# Altium integrated library NSC Discrete JFET.IntLib: 140 symbols (part 1 of 2)
Pins are listed as number, name and electrical type; pins without a type are passive.

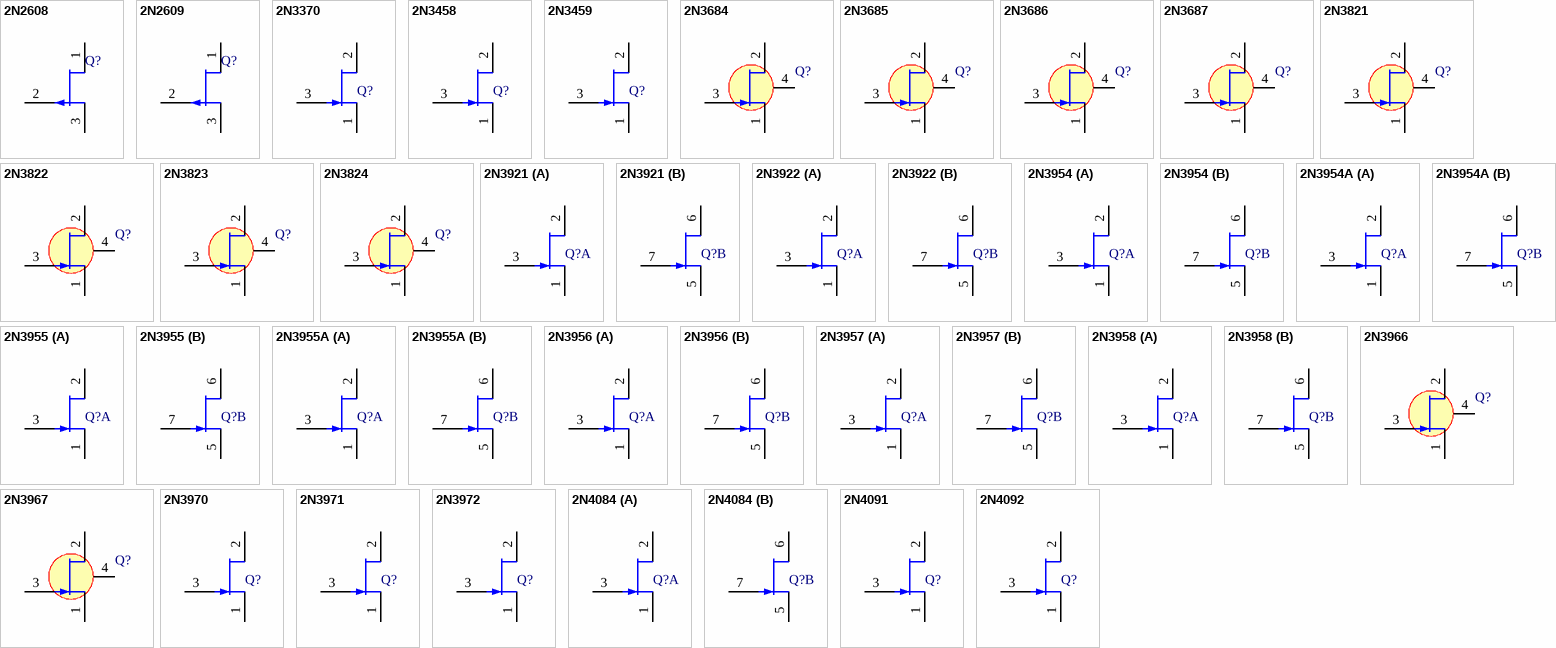
[diagram p0: symbols 2N2608 to 2N4092]

## 2N2608
designator Q?
P-Channel JFET (Amplifier); PackageDocument: 1989; Published: 8-Jun-2000; LatestRevisionDate: 17-Jul-2002; LatestRevisionNote: Re-released for DXP Platform.; DatasheetDocument: 1989; PackageReference: TO-18; Publisher: Altium Limited; ComponentLink1Description: Manufacturer Link; ComponentLink1URL: http://www.national.com/
footprint TO-18 (Can; 3 Leads; Pin Circle Dia. 2.54 mm; Lead Dia. 0.48 mm (max))
simulation model 2N2608 (PJFET)
pins: 1 S, 2 G, 3 D

## 2N2609
designator Q?
P-Channel JFET (Amplifier); PackageDocument: 1989; Published: 8-Jun-2000; LatestRevisionDate: 17-Jul-2002; LatestRevisionNote: Re-released for DXP Platform.; DatasheetDocument: 1989; PackageReference: TO-18; Publisher: Altium Limited; ComponentLink1Description: Manufacturer Link; ComponentLink1URL: http://www.national.com/
footprint TO-18 (Can; 3 Leads; Pin Circle Dia. 2.54 mm; Lead Dia. 0.48 mm (max))
simulation model 2N2609 (PJFET)
pins: 1 S, 2 G, 3 D

## 2N3370
designator Q?
N-Channel JFET (General Purpose Amplifier); PackageDocument: 1989; Published: 8-Jun-2000; LatestRevisionDate: 17-Jul-2002; LatestRevisionNote: Re-released for DXP Platform.; DatasheetDocument: 1989; PackageReference: TO-18; Publisher: Altium Limited; ComponentLink1Description: Manufacturer Link; ComponentLink1URL: http://www.national.com/
footprint TO-18 (Can; 3 Leads; Pin Circle Dia. 2.54 mm; Lead Dia. 0.48 mm (max))
simulation model 2N3370 (NJFET)
pins: 1 S, 2 D, 3 G

## 2N3458
designator Q?
N-Channel JFET (General Purpose Amplifier); PackageDocument: 1989; Published: 8-Jun-2000; LatestRevisionDate: 17-Jul-2002; LatestRevisionNote: Re-released for DXP Platform.; DatasheetDocument: 1989; PackageReference: TO-18; Publisher: Altium Limited; ComponentLink1Description: Manufacturer Link; ComponentLink1URL: http://www.national.com/
footprint TO-18 (Can; 3 Leads; Pin Circle Dia. 2.54 mm; Lead Dia. 0.48 mm (max))
simulation model 2N3458 (NJFET)
pins: 1 S, 2 D, 3 G

## 2N3459
designator Q?
N-Channel JFET (General Purpose Amplifier); PackageDocument: 1989; Published: 8-Jun-2000; LatestRevisionDate: 17-Jul-2002; LatestRevisionNote: Re-released for DXP Platform.; DatasheetDocument: 1989; PackageReference: TO-18; Publisher: Altium Limited; ComponentLink1Description: Manufacturer Link; ComponentLink1URL: http://www.national.com/
footprint TO-18 (Can; 3 Leads; Pin Circle Dia. 2.54 mm; Lead Dia. 0.48 mm (max))
simulation model 2N3459 (NJFET)
pins: 1 S, 2 D, 3 G

## 2N3684
designator Q?
N-Channel JFET (General Purpose Amplifier); PackageDocument: 1989; Note: Pin 4 is connected to case; Published: 8-Jun-2000; LatestRevisionDate: 17-Jul-2002; LatestRevisionNote: Re-released for DXP Platform.; DatasheetDocument: 1989; PackageReference: TO-72; Publisher: Altium Limited; ComponentLink1Description: Manufacturer Link; ComponentLink1URL: http://www.national.com/
footprint TO-72 (Can; 4 Leads; Pin Circle Dia. 2.54 mm; Lead Dia. 0.48 mm (max))
simulation model 2N3684 (NJFET)
pins: 1 S, 2 D, 3 G, 4 C

## 2N3685
designator Q?
N-Channel JFET (General Purpose Amplifier); PackageDocument: 1989; Note: Pin 4 is connected to case; Published: 8-Jun-2000; LatestRevisionDate: 17-Jul-2002; LatestRevisionNote: Re-released for DXP Platform.; DatasheetDocument: 1989; PackageReference: TO-72; Publisher: Altium Limited; ComponentLink1Description: Manufacturer Link; ComponentLink1URL: http://www.national.com/
footprint TO-72 (Can; 4 Leads; Pin Circle Dia. 2.54 mm; Lead Dia. 0.48 mm (max))
simulation model 2N3685 (NJFET)
pins: 1 S, 2 D, 3 G, 4 C

## 2N3686
designator Q?
N-Channel JFET (General Purpose Amplifier); PackageDocument: 1989; Note: Pin 4 is connected to case; Published: 8-Jun-2000; LatestRevisionDate: 17-Jul-2002; LatestRevisionNote: Re-released for DXP Platform.; DatasheetDocument: 1989; PackageReference: TO-72; Publisher: Altium Limited; ComponentLink1Description: Manufacturer Link; ComponentLink1URL: http://www.national.com/
footprint TO-72 (Can; 4 Leads; Pin Circle Dia. 2.54 mm; Lead Dia. 0.48 mm (max))
simulation model 2N3686 (NJFET)
pins: 1 S, 2 D, 3 G, 4 C

## 2N3687
designator Q?
N-Channel JFET (General Purpose Amplifier); PackageDocument: 1989; Note: Pin 4 is connected to case; Published: 8-Jun-2000; LatestRevisionDate: 17-Jul-2002; LatestRevisionNote: Re-released for DXP Platform.; DatasheetDocument: 1989; PackageReference: TO-72; Publisher: Altium Limited; ComponentLink1Description: Manufacturer Link; ComponentLink1URL: http://www.national.com/
footprint TO-72 (Can; 4 Leads; Pin Circle Dia. 2.54 mm; Lead Dia. 0.48 mm (max))
simulation model 2N3687 (NJFET)
pins: 1 S, 2 D, 3 G, 4 C

## 2N3821
designator Q?
N-Channel JFET (General Purpose Amplifier); PackageDocument: 1989; Note: Pin 4 is connected to case; Published: 8-Jun-2000; LatestRevisionDate: 17-Jul-2002; LatestRevisionNote: Re-released for DXP Platform.; DatasheetDocument: 1989; PackageReference: TO-72; Publisher: Altium Limited; ComponentLink1Description: Manufacturer Link; ComponentLink1URL: http://www.national.com/
footprint TO-72 (Can; 4 Leads; Pin Circle Dia. 2.54 mm; Lead Dia. 0.48 mm (max))
simulation model 2N3821 (NJFET)
pins: 1 S, 2 D, 3 G, 4 C

## 2N3822
designator Q?
N-Channel JFET (General Purpose Amplifier); PackageDocument: 1989; Note: Pin 4 is connected to case; Published: 8-Jun-2000; LatestRevisionDate: 17-Jul-2002; LatestRevisionNote: Re-released for DXP Platform.; DatasheetDocument: 1989; PackageReference: TO-72; Publisher: Altium Limited; ComponentLink1Description: Manufacturer Link; ComponentLink1URL: http://www.national.com/
footprint TO-72 (Can; 4 Leads; Pin Circle Dia. 2.54 mm; Lead Dia. 0.48 mm (max))
simulation model 2N3822 (NJFET)
pins: 1 S, 2 D, 3 G, 4 C

## 2N3823
designator Q?
N-Channel JFET (RF, VHF, UHF, Amplifier); PackageDocument: 1989; Note: Pin 4 is connected to case; Published: 8-Jun-2000; LatestRevisionDate: 17-Jul-2002; LatestRevisionNote: Re-released for DXP Platform.; DatasheetDocument: 1989; PackageReference: TO-72; Publisher: Altium Limited; ComponentLink1Description: Manufacturer Link; ComponentLink1URL: http://www.national.com/
footprint TO-72 (Can; 4 Leads; Pin Circle Dia. 2.54 mm; Lead Dia. 0.48 mm (max))
simulation model 2N3823 (NJFET)
pins: 1 S, 2 D, 3 G, 4 C

## 2N3824
designator Q?
N-Channel JFET (Switch/Chopper); PackageDocument: 1989; Note: Pin 4 is connected to case; Published: 8-Jun-2000; LatestRevisionDate: 17-Jul-2002; LatestRevisionNote: Re-released for DXP Platform.; DatasheetDocument: 1989; PackageReference: TO-72; Publisher: Altium Limited; ComponentLink1Description: Manufacturer Link; ComponentLink1URL: http://www.national.com/
footprint TO-72 (Can; 4 Leads; Pin Circle Dia. 2.54 mm; Lead Dia. 0.48 mm (max))
simulation model 2N3824 (NJFET)
pins: 1 S, 2 D, 3 G, 4 C

## 2N3921
designator Q?
N-Channel Dual JFET (General Purpose); PackageDocument: 1989; Note: Pin 4 is missing and is not drawn; Published: 8-Jun-2000; LatestRevisionDate: 17-Jul-2002; LatestRevisionNote: Re-released for DXP Platform.; DatasheetDocument: 1989; PackageReference: TO-71; Publisher: Altium Limited; ComponentLink1Description: Manufacturer Link; ComponentLink1URL: http://www.national.com/
footprint TO-71 (Can; 7 Leads (1 Absent); Pin Circle Dia. 2.54 mm; Lead Dia. 0.48 mm (max))
simulation model 2N3921 (NJFET)
part A pins: 1 S, 2 D, 3 G
part B pins: 5 S, 6 D, 7 G

## 2N3922
designator Q?
N-Channel Dual JFET (General Purpose); PackageDocument: 1989; Note: Pin 4 is missing and is not drawn; Published: 8-Jun-2000; LatestRevisionDate: 17-Jul-2002; LatestRevisionNote: Re-released for DXP Platform.; DatasheetDocument: 1989; PackageReference: TO-71; Publisher: Altium Limited; ComponentLink1Description: Manufacturer Link; ComponentLink1URL: http://www.national.com/
footprint TO-71 (Can; 7 Leads (1 Absent); Pin Circle Dia. 2.54 mm; Lead Dia. 0.48 mm (max))
simulation model 2N3922 (NJFET)
part A pins: 1 S, 2 D, 3 G
part B pins: 5 S, 6 D, 7 G

## 2N3954
designator Q?
N-Channel Dual JFET (General Purpose); PackageDocument: 1989; Note: Pin 4 is missing and is not drawn; Published: 8-Jun-2000; LatestRevisionDate: 17-Jul-2002; LatestRevisionNote: Re-released for DXP Platform.; DatasheetDocument: 1989; PackageReference: TO-71; Publisher: Altium Limited; ComponentLink1Description: Manufacturer Link; ComponentLink1URL: http://www.national.com/
footprint TO-71 (Can; 7 Leads (1 Absent); Pin Circle Dia. 2.54 mm; Lead Dia. 0.48 mm (max))
simulation model 2N3954 (NJFET)
part A pins: 1 S, 2 D, 3 G
part B pins: 5 S, 6 D, 7 G

## 2N3954A
designator Q?
N-Channel Dual JFET (General Purpose); PackageDocument: 1989; Note: Pin 4 is missing and is not drawn; Published: 8-Jun-2000; LatestRevisionDate: 17-Jul-2002; LatestRevisionNote: Re-released for DXP Platform.; DatasheetDocument: 1989; PackageReference: TO-71; Publisher: Altium Limited; ComponentLink1Description: Manufacturer Link; ComponentLink1URL: http://www.national.com/
footprint TO-71 (Can; 7 Leads (1 Absent); Pin Circle Dia. 2.54 mm; Lead Dia. 0.48 mm (max))
simulation model 2N3954A (NJFET)
part A pins: 1 S, 2 D, 3 G
part B pins: 5 S, 6 D, 7 G

## 2N3955
designator Q?
N-Channel Dual JFET (General Purpose); PackageDocument: 1989; Note: Pin 4 is missing and is not drawn; Published: 8-Jun-2000; LatestRevisionDate: 17-Jul-2002; LatestRevisionNote: Re-released for DXP Platform.; DatasheetDocument: 1989; PackageReference: TO-71; Publisher: Altium Limited; ComponentLink1Description: Manufacturer Link; ComponentLink1URL: http://www.national.com/
footprint TO-71 (Can; 7 Leads (1 Absent); Pin Circle Dia. 2.54 mm; Lead Dia. 0.48 mm (max))
simulation model 2N3955 (NJFET)
part A pins: 1 S, 2 D, 3 G
part B pins: 5 S, 6 D, 7 G

## 2N3955A
designator Q?
N-Channel Dual JFET (General Purpose); PackageDocument: 1989; Note: Pin 4 is missing and is not drawn; Published: 8-Jun-2000; LatestRevisionDate: 17-Jul-2002; LatestRevisionNote: Re-released for DXP Platform.; DatasheetDocument: 1989; PackageReference: TO-71; Publisher: Altium Limited; ComponentLink1Description: Manufacturer Link; ComponentLink1URL: http://www.national.com/
footprint TO-71 (Can; 7 Leads (1 Absent); Pin Circle Dia. 2.54 mm; Lead Dia. 0.48 mm (max))
simulation model 2N3955A (NJFET)
part A pins: 1 S, 2 D, 3 G
part B pins: 5 S, 6 D, 7 G

## 2N3956
designator Q?
N-Channel Dual JFET (General Purpose); PackageDocument: 1989; Note: Pin 4 is missing and is not drawn; Published: 8-Jun-2000; LatestRevisionDate: 17-Jul-2002; LatestRevisionNote: Re-released for DXP Platform.; DatasheetDocument: 1989; PackageReference: TO-71; Publisher: Altium Limited; ComponentLink1Description: Manufacturer Link; ComponentLink1URL: http://www.national.com/
footprint TO-71 (Can; 7 Leads (1 Absent); Pin Circle Dia. 2.54 mm; Lead Dia. 0.48 mm (max))
simulation model 2N3956 (NJFET)
part A pins: 1 S, 2 D, 3 G
part B pins: 5 S, 6 D, 7 G

## 2N3957
designator Q?
N-Channel Dual JFET (General Purpose); PackageDocument: 1989; Note: Pin 4 is missing and is not drawn; Published: 8-Jun-2000; LatestRevisionDate: 17-Jul-2002; LatestRevisionNote: Re-released for DXP Platform.; DatasheetDocument: 1989; PackageReference: TO-71; Publisher: Altium Limited; ComponentLink1Description: Manufacturer Link; ComponentLink1URL: http://www.national.com/
footprint TO-71 (Can; 7 Leads (1 Absent); Pin Circle Dia. 2.54 mm; Lead Dia. 0.48 mm (max))
simulation model 2N3957 (NJFET)
part A pins: 1 S, 2 D, 3 G
part B pins: 5 S, 6 D, 7 G

## 2N3958
designator Q?
N-Channel Dual JFET (General Purpose); PackageDocument: 1989; Note: Pin 4 is missing and is not drawn; Published: 8-Jun-2000; LatestRevisionDate: 17-Jul-2002; LatestRevisionNote: Re-released for DXP Platform.; DatasheetDocument: 1989; PackageReference: TO-71; Publisher: Altium Limited; ComponentLink1Description: Manufacturer Link; ComponentLink1URL: http://www.national.com/
footprint TO-71 (Can; 7 Leads (1 Absent); Pin Circle Dia. 2.54 mm; Lead Dia. 0.48 mm (max))
simulation model 2N3958 (NJFET)
part A pins: 1 S, 2 D, 3 G
part B pins: 5 S, 6 D, 7 G

## 2N3966
designator Q?
N-Channel JFET (Switch/Chopper); PackageDocument: 1989; Note: Pin 4 is connected to case; Published: 8-Jun-2000; LatestRevisionDate: 17-Jul-2002; LatestRevisionNote: Re-released for DXP Platform.; DatasheetDocument: 1989; PackageReference: TO-72; Publisher: Altium Limited; ComponentLink1Description: Manufacturer Link; ComponentLink1URL: http://www.national.com/
footprint TO-72 (Can; 4 Leads; Pin Circle Dia. 2.54 mm; Lead Dia. 0.48 mm (max))
simulation model 2N3966 (NJFET)
pins: 1 S, 2 D, 3 G, 4 C

## 2N3967
designator Q?
N-Channel JFET (General Purpose Amplifier); PackageDocument: 1989; Note: Pin 4 is connected to case; Published: 8-Jun-2000; LatestRevisionDate: 17-Jul-2002; LatestRevisionNote: Re-released for DXP Platform.; DatasheetDocument: 1989; PackageReference: TO-72; Publisher: Altium Limited; ComponentLink1Description: Manufacturer Link; ComponentLink1URL: http://www.national.com/
footprint TO-72 (Can; 4 Leads; Pin Circle Dia. 2.54 mm; Lead Dia. 0.48 mm (max))
simulation model 2N3967 (NJFET)
pins: 1 S, 2 D, 3 G, 4 C

## 2N3970
designator Q?
N-Channel JFET (Switch/Chopper); PackageDocument: 1989; Published: 8-Jun-2000; LatestRevisionDate: 17-Jul-2002; LatestRevisionNote: Re-released for DXP Platform.; DatasheetDocument: 1989; PackageReference: TO-18; Publisher: Altium Limited; ComponentLink1Description: Manufacturer Link; ComponentLink1URL: http://www.national.com/
footprint TO-18 (Can; 3 Leads; Pin Circle Dia. 2.54 mm; Lead Dia. 0.48 mm (max))
simulation model 2N3970 (NJFET)
pins: 1 S, 2 D, 3 G

## 2N3971
designator Q?
N-Channel JFET (Switch/Chopper); PackageDocument: 1989; Published: 8-Jun-2000; LatestRevisionDate: 17-Jul-2002; LatestRevisionNote: Re-released for DXP Platform.; DatasheetDocument: 1989; PackageReference: TO-18; Publisher: Altium Limited; ComponentLink1Description: Manufacturer Link; ComponentLink1URL: http://www.national.com/
footprint TO-18 (Can; 3 Leads; Pin Circle Dia. 2.54 mm; Lead Dia. 0.48 mm (max))
simulation model 2N3971 (NJFET)
pins: 1 S, 2 D, 3 G

## 2N3972
designator Q?
N-Channel JFET (Switch/Chopper); PackageDocument: 1989; Published: 8-Jun-2000; LatestRevisionDate: 17-Jul-2002; LatestRevisionNote: Re-released for DXP Platform.; DatasheetDocument: 1989; PackageReference: TO-18; Publisher: Altium Limited; ComponentLink1Description: Manufacturer Link; ComponentLink1URL: http://www.national.com/
footprint TO-18 (Can; 3 Leads; Pin Circle Dia. 2.54 mm; Lead Dia. 0.48 mm (max))
simulation model 2N3972 (NJFET)
pins: 1 S, 2 D, 3 G

## 2N4084
designator Q?
N-Channel Dual JFET (General Purpose); PackageDocument: 1989; Note: Pin 4 is missing and is not drawn; Published: 8-Jun-2000; LatestRevisionDate: 17-Jul-2002; LatestRevisionNote: Re-released for DXP Platform.; DatasheetDocument: 1989; PackageReference: TO-71; Publisher: Altium Limited; ComponentLink1Description: Manufacturer Link; ComponentLink1URL: http://www.national.com/
footprint TO-71 (Can; 7 Leads (1 Absent); Pin Circle Dia. 2.54 mm; Lead Dia. 0.48 mm (max))
simulation model 2N4084 (NJFET)
part A pins: 1 S, 2 D, 3 G
part B pins: 5 S, 6 D, 7 G

## 2N4091
designator Q?
N-Channel JFET (Switch/Chopper); PackageDocument: 1989; Published: 8-Jun-2000; LatestRevisionDate: 17-Jul-2002; LatestRevisionNote: Re-released for DXP Platform.; DatasheetDocument: 1989; PackageReference: TO-18; Publisher: Altium Limited; ComponentLink1Description: Manufacturer Link; ComponentLink1URL: http://www.national.com/
footprint TO-18 (Can; 3 Leads; Pin Circle Dia. 2.54 mm; Lead Dia. 0.48 mm (max))
simulation model 2N4091 (NJFET)
pins: 1 S, 2 D, 3 G

## 2N4092
designator Q?
N-Channel JFET (Switch/Chopper); PackageDocument: 1989; Published: 8-Jun-2000; LatestRevisionDate: 17-Jul-2002; LatestRevisionNote: Re-released for DXP Platform.; DatasheetDocument: 1989; PackageReference: TO-18; Publisher: Altium Limited; ComponentLink1Description: Manufacturer Link; ComponentLink1URL: http://www.national.com/
footprint TO-18 (Can; 3 Leads; Pin Circle Dia. 2.54 mm; Lead Dia. 0.48 mm (max))
simulation model 2N4092 (NJFET)
pins: 1 S, 2 D, 3 G

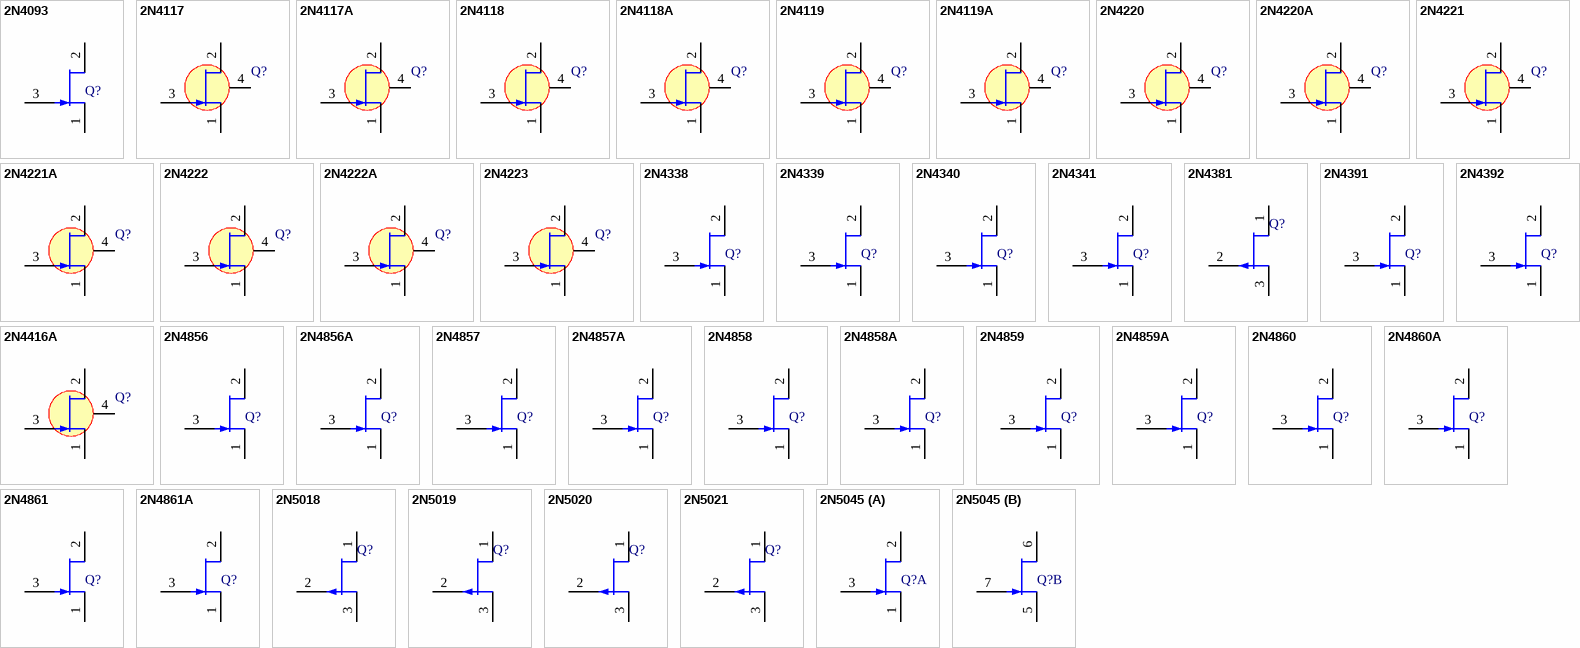
[diagram p1: symbols 2N4093 to 2N5045]

## 2N4093
designator Q?
N-Channel JFET (Switch/Chopper); PackageDocument: 1989; Published: 8-Jun-2000; LatestRevisionDate: 17-Jul-2002; LatestRevisionNote: Re-released for DXP Platform.; DatasheetDocument: 1989; PackageReference: TO-18; Publisher: Altium Limited; ComponentLink1Description: Manufacturer Link; ComponentLink1URL: http://www.national.com/
footprint TO-18 (Can; 3 Leads; Pin Circle Dia. 2.54 mm; Lead Dia. 0.48 mm (max))
simulation model 2N4093 (NJFET)
pins: 1 S, 2 D, 3 G

## 2N4117
designator Q?
N-Channel JFET (Ultra-Low Input Current Amplifier); PackageDocument: 1989; Note: Pin 4 is connected to case; Published: 8-Jun-2000; LatestRevisionDate: 17-Jul-2002; LatestRevisionNote: Re-released for DXP Platform.; DatasheetDocument: 1989; PackageReference: TO-72; Publisher: Altium Limited; ComponentLink1Description: Manufacturer Link; ComponentLink1URL: http://www.national.com/
footprint TO-72 (Can; 4 Leads; Pin Circle Dia. 2.54 mm; Lead Dia. 0.48 mm (max))
simulation model 2N4117 (NJFET)
pins: 1 S, 2 D, 3 G, 4 C

## 2N4117A
designator Q?
N-Channel JFET (Ultra-Low Input Current Amplifier); PackageDocument: 1989; Note: Pin 4 is connected to case; Published: 8-Jun-2000; LatestRevisionDate: 17-Jul-2002; LatestRevisionNote: Re-released for DXP Platform.; DatasheetDocument: 1989; PackageReference: TO-72; Publisher: Altium Limited; ComponentLink1Description: Manufacturer Link; ComponentLink1URL: http://www.national.com/
footprint TO-72 (Can; 4 Leads; Pin Circle Dia. 2.54 mm; Lead Dia. 0.48 mm (max))
simulation model 2N4117A (NJFET)
pins: 1 S, 2 D, 3 G, 4 C

## 2N4118
designator Q?
N-Channel JFET (Ultra-Low Input Current Amplifier); PackageDocument: 1989; Note: Pin 4 is connected to case; Published: 8-Jun-2000; LatestRevisionDate: 17-Jul-2002; LatestRevisionNote: Re-released for DXP Platform.; DatasheetDocument: 1989; PackageReference: TO-72; Publisher: Altium Limited; ComponentLink1Description: Manufacturer Link; ComponentLink1URL: http://www.national.com/
footprint TO-72 (Can; 4 Leads; Pin Circle Dia. 2.54 mm; Lead Dia. 0.48 mm (max))
simulation model 2N4118 (NJFET)
pins: 1 S, 2 D, 3 G, 4 C

## 2N4118A
designator Q?
N-Channel JFET (Ultra-Low Input Current Amplifier); PackageDocument: 1989; Note: Pin 4 is connected to case; Published: 8-Jun-2000; LatestRevisionDate: 17-Jul-2002; LatestRevisionNote: Re-released for DXP Platform.; DatasheetDocument: 1989; PackageReference: TO-72; Publisher: Altium Limited; ComponentLink1Description: Manufacturer Link; ComponentLink1URL: http://www.national.com/
footprint TO-72 (Can; 4 Leads; Pin Circle Dia. 2.54 mm; Lead Dia. 0.48 mm (max))
simulation model 2N4118A (NJFET)
pins: 1 S, 2 D, 3 G, 4 C

## 2N4119
designator Q?
N-Channel JFET (Ultra-Low Input Current Amplifier); PackageDocument: 1989; Note: Pin 4 is connected to case; Published: 8-Jun-2000; LatestRevisionDate: 17-Jul-2002; LatestRevisionNote: Re-released for DXP Platform.; DatasheetDocument: 1989; PackageReference: TO-72; Publisher: Altium Limited; ComponentLink1Description: Manufacturer Link; ComponentLink1URL: http://www.national.com/
footprint TO-72 (Can; 4 Leads; Pin Circle Dia. 2.54 mm; Lead Dia. 0.48 mm (max))
simulation model 2N4119 (NJFET)
pins: 1 S, 2 D, 3 G, 4 C

## 2N4119A
designator Q?
N-Channel JFET (Ultra-Low Input Current Amplifier); PackageDocument: 1989; Note: Pin 4 is connected to case; Published: 8-Jun-2000; LatestRevisionDate: 17-Jul-2002; LatestRevisionNote: Re-released for DXP Platform.; DatasheetDocument: 1989; PackageReference: TO-72; Publisher: Altium Limited; ComponentLink1Description: Manufacturer Link; ComponentLink1URL: http://www.national.com/
footprint TO-72 (Can; 4 Leads; Pin Circle Dia. 2.54 mm; Lead Dia. 0.48 mm (max))
simulation model 2N4119A (NJFET)
pins: 1 S, 2 D, 3 G, 4 C

## 2N4220
designator Q?
N-Channel JFET (General Purpose Amplifier); PackageDocument: 1989; Note: Pin 4 is connected to case; Published: 8-Jun-2000; LatestRevisionDate: 17-Jul-2002; LatestRevisionNote: Re-released for DXP Platform.; DatasheetDocument: 1989; PackageReference: TO-72; Publisher: Altium Limited; ComponentLink1Description: Manufacturer Link; ComponentLink1URL: http://www.national.com/
footprint TO-72 (Can; 4 Leads; Pin Circle Dia. 2.54 mm; Lead Dia. 0.48 mm (max))
simulation model 2N4220 (NJFET)
pins: 1 S, 2 D, 3 G, 4 C

## 2N4220A
designator Q?
N-Channel JFET (General Purpose Amplifier); PackageDocument: 1989; Note: Pin 4 is connected to case; Published: 8-Jun-2000; LatestRevisionDate: 17-Jul-2002; LatestRevisionNote: Re-released for DXP Platform.; DatasheetDocument: 1989; PackageReference: TO-72; Publisher: Altium Limited; ComponentLink1Description: Manufacturer Link; ComponentLink1URL: http://www.national.com/
footprint TO-72 (Can; 4 Leads; Pin Circle Dia. 2.54 mm; Lead Dia. 0.48 mm (max))
simulation model 2N4220A (NJFET)
pins: 1 S, 2 D, 3 G, 4 C

## 2N4221
designator Q?
N-Channel JFET (General Purpose Amplifier); PackageDocument: 1989; Note: Pin 4 is connected to case; Published: 8-Jun-2000; LatestRevisionDate: 17-Jul-2002; LatestRevisionNote: Re-released for DXP Platform.; DatasheetDocument: 1989; PackageReference: TO-72; Publisher: Altium Limited; ComponentLink1Description: Manufacturer Link; ComponentLink1URL: http://www.national.com/
footprint TO-72 (Can; 4 Leads; Pin Circle Dia. 2.54 mm; Lead Dia. 0.48 mm (max))
simulation model 2N4221 (NJFET)
pins: 1 S, 2 D, 3 G, 4 C

## 2N4221A
designator Q?
N-Channel JFET (General Purpose Amplifier); PackageDocument: 1989; Note: Pin 4 is connected to case; Published: 8-Jun-2000; LatestRevisionDate: 17-Jul-2002; LatestRevisionNote: Re-released for DXP Platform.; DatasheetDocument: 1989; PackageReference: TO-72; Publisher: Altium Limited; ComponentLink1Description: Manufacturer Link; ComponentLink1URL: http://www.national.com/
footprint TO-72 (Can; 4 Leads; Pin Circle Dia. 2.54 mm; Lead Dia. 0.48 mm (max))
simulation model 2N4221A (NJFET)
pins: 1 S, 2 D, 3 G, 4 C

## 2N4222
designator Q?
N-Channel JFET (General Purpose Amplifier); PackageDocument: 1989; Note: Pin 4 is connected to case; Published: 8-Jun-2000; LatestRevisionDate: 17-Jul-2002; LatestRevisionNote: Re-released for DXP Platform.; DatasheetDocument: 1989; PackageReference: TO-72; Publisher: Altium Limited; ComponentLink1Description: Manufacturer Link; ComponentLink1URL: http://www.national.com/
footprint TO-72 (Can; 4 Leads; Pin Circle Dia. 2.54 mm; Lead Dia. 0.48 mm (max))
simulation model 2N4222 (NJFET)
pins: 1 S, 2 D, 3 G, 4 C

## 2N4222A
designator Q?
N-Channel JFET (General Purpose Amplifier); PackageDocument: 1989; Note: Pin 4 is connected to case; Published: 8-Jun-2000; LatestRevisionDate: 17-Jul-2002; LatestRevisionNote: Re-released for DXP Platform.; DatasheetDocument: 1989; PackageReference: TO-72; Publisher: Altium Limited; ComponentLink1Description: Manufacturer Link; ComponentLink1URL: http://www.national.com/
footprint TO-72 (Can; 4 Leads; Pin Circle Dia. 2.54 mm; Lead Dia. 0.48 mm (max))
simulation model 2N4222A (NJFET)
pins: 1 S, 2 D, 3 G, 4 C

## 2N4223
designator Q?
N-Channel JFET (RF, VHF, UHF, Amplifier); PackageDocument: 1989; Note: Pin 4 is connected to case; Published: 8-Jun-2000; LatestRevisionDate: 17-Jul-2002; LatestRevisionNote: Re-released for DXP Platform.; DatasheetDocument: 1989; PackageReference: TO-72; Publisher: Altium Limited; ComponentLink1Description: Manufacturer Link; ComponentLink1URL: http://www.national.com/
footprint TO-72 (Can; 4 Leads; Pin Circle Dia. 2.54 mm; Lead Dia. 0.48 mm (max))
simulation model 2N4223 (NJFET)
pins: 1 S, 2 D, 3 G, 4 C

## 2N4338
designator Q?
N-Channel JFET (General Purpose Amplifier); PackageDocument: 1989; Published: 8-Jun-2000; LatestRevisionDate: 17-Jul-2002; LatestRevisionNote: Re-released for DXP Platform.; DatasheetDocument: 1989; PackageReference: TO-18; Publisher: Altium Limited; ComponentLink1Description: Manufacturer Link; ComponentLink1URL: http://www.national.com/
footprint TO-18 (Can; 3 Leads; Pin Circle Dia. 2.54 mm; Lead Dia. 0.48 mm (max))
simulation model 2N4338 (NJFET)
pins: 1 S, 2 D, 3 G

## 2N4339
designator Q?
N-Channel JFET (General Purpose Amplifier); PackageDocument: 1989; Published: 8-Jun-2000; LatestRevisionDate: 17-Jul-2002; LatestRevisionNote: Re-released for DXP Platform.; DatasheetDocument: 1989; PackageReference: TO-18; Publisher: Altium Limited; ComponentLink1Description: Manufacturer Link; ComponentLink1URL: http://www.national.com/
footprint TO-18 (Can; 3 Leads; Pin Circle Dia. 2.54 mm; Lead Dia. 0.48 mm (max))
simulation model 2N4339 (NJFET)
pins: 1 S, 2 D, 3 G

## 2N4340
designator Q?
N-Channel JFET (General Purpose Amplifier); PackageDocument: 1989; Published: 8-Jun-2000; LatestRevisionDate: 17-Jul-2002; LatestRevisionNote: Re-released for DXP Platform.; DatasheetDocument: 1989; PackageReference: TO-18; Publisher: Altium Limited; ComponentLink1Description: Manufacturer Link; ComponentLink1URL: http://www.national.com/
footprint TO-18 (Can; 3 Leads; Pin Circle Dia. 2.54 mm; Lead Dia. 0.48 mm (max))
simulation model 2N4340 (NJFET)
pins: 1 S, 2 D, 3 G

## 2N4341
designator Q?
N-Channel JFET (General Purpose Amplifier); PackageDocument: 1989; Published: 8-Jun-2000; LatestRevisionDate: 17-Jul-2002; LatestRevisionNote: Re-released for DXP Platform.; DatasheetDocument: 1989; PackageReference: TO-18; Publisher: Altium Limited; ComponentLink1Description: Manufacturer Link; ComponentLink1URL: http://www.national.com/
footprint TO-18 (Can; 3 Leads; Pin Circle Dia. 2.54 mm; Lead Dia. 0.48 mm (max))
simulation model 2N4341 (NJFET)
pins: 1 S, 2 D, 3 G

## 2N4381
designator Q?
P-Channel JFET (Amplifier); PackageDocument: 1989; Published: 8-Jun-2000; LatestRevisionDate: 17-Jul-2002; LatestRevisionNote: Re-released for DXP Platform.; DatasheetDocument: 1989; PackageReference: TO-18; Publisher: Altium Limited; ComponentLink1Description: Manufacturer Link; ComponentLink1URL: http://www.national.com/
footprint TO-18 (Can; 3 Leads; Pin Circle Dia. 2.54 mm; Lead Dia. 0.48 mm (max))
simulation model 2N4381 (PJFET)
pins: 1 S, 2 G, 3 D

## 2N4391
designator Q?
N-Channel JFET (Switch/Chopper); PackageDocument: 1989; Published: 8-Jun-2000; LatestRevisionDate: 17-Jul-2002; LatestRevisionNote: Re-released for DXP Platform.; DatasheetDocument: 1989; PackageReference: TO-18; Publisher: Altium Limited; ComponentLink1Description: Manufacturer Link; ComponentLink1URL: http://www.national.com/
footprint TO-18 (Can; 3 Leads; Pin Circle Dia. 2.54 mm; Lead Dia. 0.48 mm (max))
simulation model 2N4391 (NJFET)
pins: 1 S, 2 D, 3 G

## 2N4392
designator Q?
N-Channel JFET (Switch/Chopper); PackageDocument: 1989; Published: 8-Jun-2000; LatestRevisionDate: 17-Jul-2002; LatestRevisionNote: Re-released for DXP Platform.; DatasheetDocument: 1989; PackageReference: TO-18; Publisher: Altium Limited; ComponentLink1Description: Manufacturer Link; ComponentLink1URL: http://www.national.com/
footprint TO-18 (Can; 3 Leads; Pin Circle Dia. 2.54 mm; Lead Dia. 0.48 mm (max))
simulation model 2N4392 (NJFET)
pins: 1 S, 2 D, 3 G

## 2N4416A
designator Q?
N-Channel JFET (RF, VHF, UHF, Amplifier); PackageDocument: 1989; Note: Pin 4 is connected to case; Published: 8-Jun-2000; LatestRevisionDate: 17-Jul-2002; LatestRevisionNote: Re-released for DXP Platform.; DatasheetDocument: 1989; PackageReference: TO-72; Publisher: Altium Limited; ComponentLink1Description: Manufacturer Link; ComponentLink1URL: http://www.national.com/
footprint TO-72 (Can; 4 Leads; Pin Circle Dia. 2.54 mm; Lead Dia. 0.48 mm (max))
simulation model 2N4416A (NJFET)
pins: 1 S, 2 D, 3 G, 4 C

## 2N4856
designator Q?
N-Channel JFET (Switch/Chopper); PackageDocument: 1989; Published: 8-Jun-2000; LatestRevisionDate: 17-Jul-2002; LatestRevisionNote: Re-released for DXP Platform.; DatasheetDocument: 1989; PackageReference: TO-18; Publisher: Altium Limited; ComponentLink1Description: Manufacturer Link; ComponentLink1URL: http://www.national.com/
footprint TO-18 (Can; 3 Leads; Pin Circle Dia. 2.54 mm; Lead Dia. 0.48 mm (max))
simulation model 2N4856 (NJFET)
pins: 1 S, 2 D, 3 G

## 2N4856A
designator Q?
N-Channel JFET (Switch/Chopper); PackageDocument: 1989; Published: 8-Jun-2000; LatestRevisionDate: 17-Jul-2002; LatestRevisionNote: Re-released for DXP Platform.; DatasheetDocument: 1989; PackageReference: TO-18; Publisher: Altium Limited; ComponentLink1Description: Manufacturer Link; ComponentLink1URL: http://www.national.com/
footprint TO-18 (Can; 3 Leads; Pin Circle Dia. 2.54 mm; Lead Dia. 0.48 mm (max))
simulation model 2N4856A (NJFET)
pins: 1 S, 2 D, 3 G

## 2N4857
designator Q?
N-Channel JFET (Switch/Chopper); PackageDocument: 1989; Published: 8-Jun-2000; LatestRevisionDate: 17-Jul-2002; LatestRevisionNote: Re-released for DXP Platform.; DatasheetDocument: 1989; PackageReference: TO-18; Publisher: Altium Limited; ComponentLink1Description: Manufacturer Link; ComponentLink1URL: http://www.national.com/
footprint TO-18 (Can; 3 Leads; Pin Circle Dia. 2.54 mm; Lead Dia. 0.48 mm (max))
simulation model 2N4857 (NJFET)
pins: 1 S, 2 D, 3 G

## 2N4857A
designator Q?
N-Channel JFET (Switch/Chopper); PackageDocument: 1989; Published: 8-Jun-2000; LatestRevisionDate: 17-Jul-2002; LatestRevisionNote: Re-released for DXP Platform.; DatasheetDocument: 1989; PackageReference: TO-18; Publisher: Altium Limited; ComponentLink1Description: Manufacturer Link; ComponentLink1URL: http://www.national.com/
footprint TO-18 (Can; 3 Leads; Pin Circle Dia. 2.54 mm; Lead Dia. 0.48 mm (max))
simulation model 2N4857A (NJFET)
pins: 1 S, 2 D, 3 G

## 2N4858
designator Q?
N-Channel JFET (Switch/Chopper); PackageDocument: 1989; Published: 8-Jun-2000; LatestRevisionDate: 17-Jul-2002; LatestRevisionNote: Re-released for DXP Platform.; DatasheetDocument: 1989; PackageReference: TO-18; Publisher: Altium Limited; ComponentLink1Description: Manufacturer Link; ComponentLink1URL: http://www.national.com/
footprint TO-18 (Can; 3 Leads; Pin Circle Dia. 2.54 mm; Lead Dia. 0.48 mm (max))
simulation model 2N4858 (NJFET)
pins: 1 S, 2 D, 3 G

## 2N4858A
designator Q?
N-Channel JFET (Switch/Chopper); PackageDocument: 1989; Published: 8-Jun-2000; LatestRevisionDate: 17-Jul-2002; LatestRevisionNote: Re-released for DXP Platform.; DatasheetDocument: 1989; PackageReference: TO-18; Publisher: Altium Limited; ComponentLink1Description: Manufacturer Link; ComponentLink1URL: http://www.national.com/
footprint TO-18 (Can; 3 Leads; Pin Circle Dia. 2.54 mm; Lead Dia. 0.48 mm (max))
simulation model 2N4858A (NJFET)
pins: 1 S, 2 D, 3 G

## 2N4859
designator Q?
N-Channel JFET (Switch/Chopper); PackageDocument: 1989; Published: 8-Jun-2000; LatestRevisionDate: 17-Jul-2002; LatestRevisionNote: Re-released for DXP Platform.; DatasheetDocument: 1989; PackageReference: TO-18; Publisher: Altium Limited; ComponentLink1Description: Manufacturer Link; ComponentLink1URL: http://www.national.com/
footprint TO-18 (Can; 3 Leads; Pin Circle Dia. 2.54 mm; Lead Dia. 0.48 mm (max))
simulation model 2N4859 (NJFET)
pins: 1 S, 2 D, 3 G

## 2N4859A
designator Q?
N-Channel JFET (Switch/Chopper); PackageDocument: 1989; Published: 8-Jun-2000; LatestRevisionDate: 17-Jul-2002; LatestRevisionNote: Re-released for DXP Platform.; DatasheetDocument: 1989; PackageReference: TO-18; Publisher: Altium Limited; ComponentLink1Description: Manufacturer Link; ComponentLink1URL: http://www.national.com/
footprint TO-18 (Can; 3 Leads; Pin Circle Dia. 2.54 mm; Lead Dia. 0.48 mm (max))
simulation model 2N4859A (NJFET)
pins: 1 S, 2 D, 3 G

## 2N4860
designator Q?
N-Channel JFET (Switch/Chopper); PackageDocument: 1989; Published: 8-Jun-2000; LatestRevisionDate: 17-Jul-2002; LatestRevisionNote: Re-released for DXP Platform.; DatasheetDocument: 1989; PackageReference: TO-18; Publisher: Altium Limited; ComponentLink1Description: Manufacturer Link; ComponentLink1URL: http://www.national.com/
footprint TO-18 (Can; 3 Leads; Pin Circle Dia. 2.54 mm; Lead Dia. 0.48 mm (max))
simulation model 2N4860 (NJFET)
pins: 1 S, 2 D, 3 G

## 2N4860A
designator Q?
N-Channel JFET (Switch/Chopper); PackageDocument: 1989; Published: 8-Jun-2000; LatestRevisionDate: 17-Jul-2002; LatestRevisionNote: Re-released for DXP Platform.; DatasheetDocument: 1989; PackageReference: TO-18; Publisher: Altium Limited; ComponentLink1Description: Manufacturer Link; ComponentLink1URL: http://www.national.com/
footprint TO-18 (Can; 3 Leads; Pin Circle Dia. 2.54 mm; Lead Dia. 0.48 mm (max))
simulation model 2N4860A (NJFET)
pins: 1 S, 2 D, 3 G

## 2N4861
designator Q?
N-Channel JFET (Switch/Chopper); PackageDocument: 1989; Published: 8-Jun-2000; LatestRevisionDate: 17-Jul-2002; LatestRevisionNote: Re-released for DXP Platform.; DatasheetDocument: 1989; PackageReference: TO-18; Publisher: Altium Limited; ComponentLink1Description: Manufacturer Link; ComponentLink1URL: http://www.national.com/
footprint TO-18 (Can; 3 Leads; Pin Circle Dia. 2.54 mm; Lead Dia. 0.48 mm (max))
simulation model 2N4861 (NJFET)
pins: 1 S, 2 D, 3 G

## 2N4861A
designator Q?
N-Channel JFET (Switch/Chopper); PackageDocument: 1989; Published: 8-Jun-2000; LatestRevisionDate: 17-Jul-2002; LatestRevisionNote: Re-released for DXP Platform.; DatasheetDocument: 1989; PackageReference: TO-18; Publisher: Altium Limited; ComponentLink1Description: Manufacturer Link; ComponentLink1URL: http://www.national.com/
footprint TO-18 (Can; 3 Leads; Pin Circle Dia. 2.54 mm; Lead Dia. 0.48 mm (max))
simulation model 2N4861A (NJFET)
pins: 1 S, 2 D, 3 G

## 2N5018
designator Q?
P-Channel JFET (Switch); PackageDocument: 1989; Published: 8-Jun-2000; LatestRevisionDate: 17-Jul-2002; LatestRevisionNote: Re-released for DXP Platform.; DatasheetDocument: 1989; PackageReference: TO-18; Publisher: Altium Limited; ComponentLink1Description: Manufacturer Link; ComponentLink1URL: http://www.national.com/
footprint TO-18 (Can; 3 Leads; Pin Circle Dia. 2.54 mm; Lead Dia. 0.48 mm (max))
simulation model 2N5018 (PJFET)
pins: 1 S, 2 G, 3 D

## 2N5019
designator Q?
P-Channel JFET (Switch); PackageDocument: 1989; Published: 8-Jun-2000; LatestRevisionDate: 17-Jul-2002; LatestRevisionNote: Re-released for DXP Platform.; DatasheetDocument: 1989; PackageReference: TO-18; Publisher: Altium Limited; ComponentLink1Description: Manufacturer Link; ComponentLink1URL: http://www.national.com/
footprint TO-18 (Can; 3 Leads; Pin Circle Dia. 2.54 mm; Lead Dia. 0.48 mm (max))
simulation model 2N5019 (PJFET)
pins: 1 S, 2 G, 3 D

## 2N5020
designator Q?
P-Channel JFET (Amplifier); PackageDocument: 1989; Published: 8-Jun-2000; LatestRevisionDate: 17-Jul-2002; LatestRevisionNote: Re-released for DXP Platform.; DatasheetDocument: 1989; PackageReference: TO-18; Publisher: Altium Limited; ComponentLink1Description: Manufacturer Link; ComponentLink1URL: http://www.national.com/
footprint TO-18 (Can; 3 Leads; Pin Circle Dia. 2.54 mm; Lead Dia. 0.48 mm (max))
simulation model 2N5020 (PJFET)
pins: 1 S, 2 G, 3 D

## 2N5021
designator Q?
P-Channel JFET (Amplifier); PackageDocument: 1989; Published: 8-Jun-2000; LatestRevisionDate: 17-Jul-2002; LatestRevisionNote: Re-released for DXP Platform.; DatasheetDocument: 1989; PackageReference: TO-18; Publisher: Altium Limited; ComponentLink1Description: Manufacturer Link; ComponentLink1URL: http://www.national.com/
footprint TO-18 (Can; 3 Leads; Pin Circle Dia. 2.54 mm; Lead Dia. 0.48 mm (max))
simulation model 2N5021 (PJFET)
pins: 1 S, 2 G, 3 D

## 2N5045
designator Q?
N-Channel Dual JFET (General Purpose); PackageDocument: 1989; Note: Pin 4 is missing and is not drawn; Published: 8-Jun-2000; LatestRevisionDate: 17-Jul-2002; LatestRevisionNote: Re-released for DXP Platform.; DatasheetDocument: 1989; PackageReference: TO-71; Publisher: Altium Limited; ComponentLink1Description: Manufacturer Link; ComponentLink1URL: http://www.national.com/
footprint TO-71 (Can; 7 Leads (1 Absent); Pin Circle Dia. 2.54 mm; Lead Dia. 0.48 mm (max))
simulation model 2N5045 (NJFET)
part A pins: 1 S, 2 D, 3 G
part B pins: 5 S, 6 D, 7 G

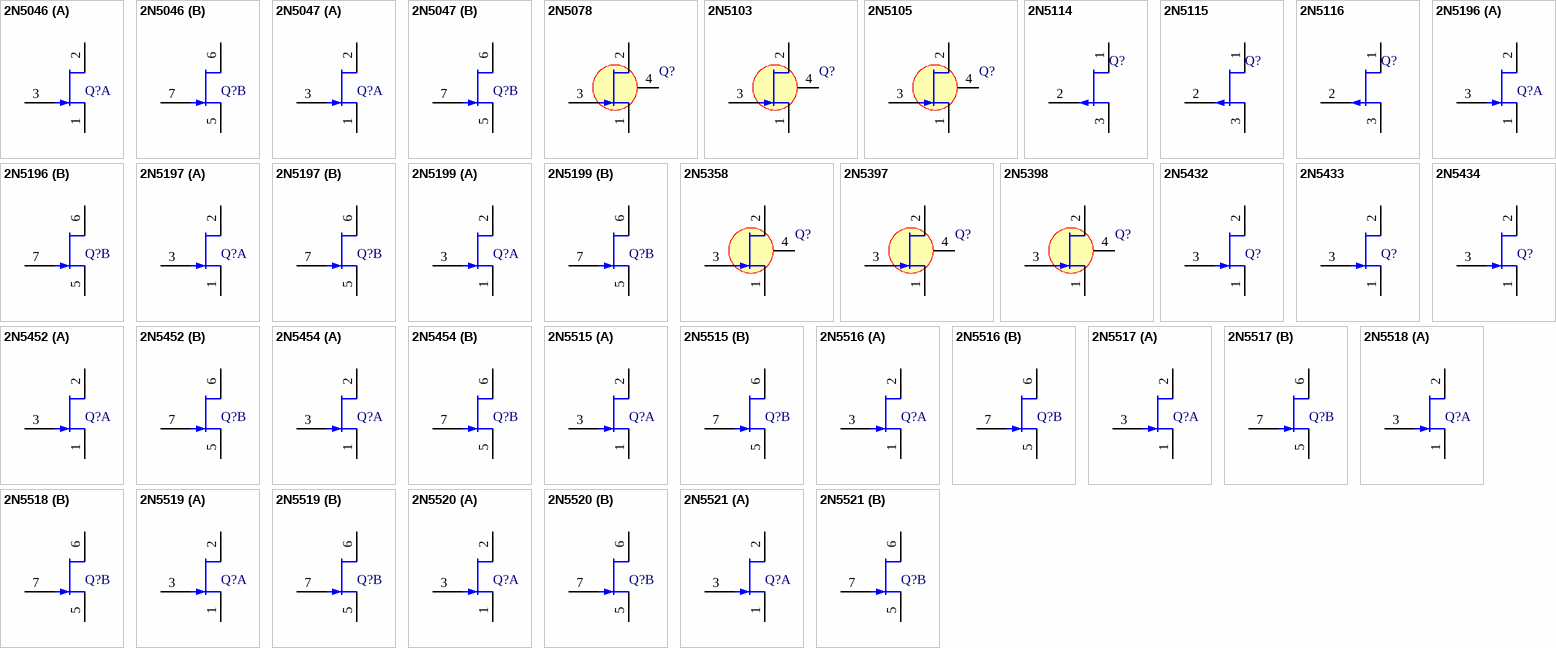
[diagram p2: symbols 2N5046 to 2N5521]

## 2N5046
designator Q?
N-Channel Dual JFET (General Purpose); PackageDocument: 1989; Note: Pin 4 is missing and is not drawn; Published: 8-Jun-2000; LatestRevisionDate: 17-Jul-2002; LatestRevisionNote: Re-released for DXP Platform.; DatasheetDocument: 1989; PackageReference: TO-71; Publisher: Altium Limited; ComponentLink1Description: Manufacturer Link; ComponentLink1URL: http://www.national.com/
footprint TO-71 (Can; 7 Leads (1 Absent); Pin Circle Dia. 2.54 mm; Lead Dia. 0.48 mm (max))
simulation model 2N5046 (NJFET)
part A pins: 1 S, 2 D, 3 G
part B pins: 5 S, 6 D, 7 G

## 2N5047
designator Q?
N-Channel Dual JFET (General Purpose); PackageDocument: 1989; Note: Pin 4 is missing and is not drawn; Published: 8-Jun-2000; LatestRevisionDate: 17-Jul-2002; LatestRevisionNote: Re-released for DXP Platform.; DatasheetDocument: 1989; PackageReference: TO-71; Publisher: Altium Limited; ComponentLink1Description: Manufacturer Link; ComponentLink1URL: http://www.national.com/
footprint TO-71 (Can; 7 Leads (1 Absent); Pin Circle Dia. 2.54 mm; Lead Dia. 0.48 mm (max))
simulation model 2N5047 (NJFET)
part A pins: 1 S, 2 D, 3 G
part B pins: 5 S, 6 D, 7 G

## 2N5078
designator Q?
N-Channel JFET (RF, VHF, UHF, Amplifier); PackageDocument: 1989; Note: Pin 4 is connected to case; Published: 8-Jun-2000; LatestRevisionDate: 17-Jul-2002; LatestRevisionNote: Re-released for DXP Platform.; DatasheetDocument: 1989; PackageReference: TO-72; Publisher: Altium Limited; ComponentLink1Description: Manufacturer Link; ComponentLink1URL: http://www.national.com/
footprint TO-72 (Can; 4 Leads; Pin Circle Dia. 2.54 mm; Lead Dia. 0.48 mm (max))
simulation model 2N5078 (NJFET)
pins: 1 S, 2 D, 3 G, 4 C

## 2N5103
designator Q?
N-Channel JFET (General Purpose Amplifier); PackageDocument: 1989; Note: Pin 4 is connected to case; Published: 8-Jun-2000; LatestRevisionDate: 17-Jul-2002; LatestRevisionNote: Re-released for DXP Platform.; DatasheetDocument: 1989; PackageReference: TO-72; Publisher: Altium Limited; ComponentLink1Description: Manufacturer Link; ComponentLink1URL: http://www.national.com/
footprint TO-72 (Can; 4 Leads; Pin Circle Dia. 2.54 mm; Lead Dia. 0.48 mm (max))
simulation model 2N5103 (NJFET)
pins: 1 S, 2 D, 3 G, 4 C

## 2N5105
designator Q?
N-Channel JFET (General Purpose Amplifier); PackageDocument: 1989; Note: Pin 4 is connected to case; Published: 8-Jun-2000; LatestRevisionDate: 17-Jul-2002; LatestRevisionNote: Re-released for DXP Platform.; DatasheetDocument: 1989; PackageReference: TO-72; Publisher: Altium Limited; ComponentLink1Description: Manufacturer Link; ComponentLink1URL: http://www.national.com/
footprint TO-72 (Can; 4 Leads; Pin Circle Dia. 2.54 mm; Lead Dia. 0.48 mm (max))
simulation model 2N5105 (NJFET)
pins: 1 S, 2 D, 3 G, 4 C

## 2N5114
designator Q?
P-Channel JFET (Switch); PackageDocument: 1989; Published: 8-Jun-2000; LatestRevisionDate: 17-Jul-2002; LatestRevisionNote: Re-released for DXP Platform.; DatasheetDocument: 1989; PackageReference: TO-18; Publisher: Altium Limited; ComponentLink1Description: Manufacturer Link; ComponentLink1URL: http://www.national.com/
footprint TO-18 (Can; 3 Leads; Pin Circle Dia. 2.54 mm; Lead Dia. 0.48 mm (max))
simulation model 2N5114 (PJFET)
pins: 1 S, 2 G, 3 D

## 2N5115
designator Q?
P-Channel JFET (Switch); PackageDocument: 1989; Published: 8-Jun-2000; LatestRevisionDate: 17-Jul-2002; LatestRevisionNote: Re-released for DXP Platform.; DatasheetDocument: 1989; PackageReference: TO-18; Publisher: Altium Limited; ComponentLink1Description: Manufacturer Link; ComponentLink1URL: http://www.national.com/
footprint TO-18 (Can; 3 Leads; Pin Circle Dia. 2.54 mm; Lead Dia. 0.48 mm (max))
simulation model 2N5115 (PJFET)
pins: 1 S, 2 G, 3 D

## 2N5116
designator Q?
P-Channel JFET (Switch); PackageDocument: 1989; Published: 8-Jun-2000; LatestRevisionDate: 17-Jul-2002; LatestRevisionNote: Re-released for DXP Platform.; DatasheetDocument: 1989; PackageReference: TO-18; Publisher: Altium Limited; ComponentLink1Description: Manufacturer Link; ComponentLink1URL: http://www.national.com/
footprint TO-18 (Can; 3 Leads; Pin Circle Dia. 2.54 mm; Lead Dia. 0.48 mm (max))
simulation model 2N5116 (PJFET)
pins: 1 S, 2 G, 3 D

## 2N5196
designator Q?
N-Channel Dual JFET (General Purpose); PackageDocument: 1989; Note: Pin 4 is missing and is not drawn; Published: 8-Jun-2000; LatestRevisionDate: 17-Jul-2002; LatestRevisionNote: Re-released for DXP Platform.; DatasheetDocument: 1989; PackageReference: TO-71; Publisher: Altium Limited; ComponentLink1Description: Manufacturer Link; ComponentLink1URL: http://www.national.com/
footprint TO-71 (Can; 7 Leads (1 Absent); Pin Circle Dia. 2.54 mm; Lead Dia. 0.48 mm (max))
simulation model 2N5196 (NJFET)
part A pins: 1 S, 2 D, 3 G
part B pins: 5 S, 6 D, 7 G

## 2N5197
designator Q?
N-Channel Dual JFET (General Purpose); PackageDocument: 1989; Note: Pin 4 is missing and is not drawn; Published: 8-Jun-2000; LatestRevisionDate: 17-Jul-2002; LatestRevisionNote: Re-released for DXP Platform.; DatasheetDocument: 1989; PackageReference: TO-71; Publisher: Altium Limited; ComponentLink1Description: Manufacturer Link; ComponentLink1URL: http://www.national.com/
footprint TO-71 (Can; 7 Leads (1 Absent); Pin Circle Dia. 2.54 mm; Lead Dia. 0.48 mm (max))
simulation model 2N5197 (NJFET)
part A pins: 1 S, 2 D, 3 G
part B pins: 5 S, 6 D, 7 G

## 2N5199
designator Q?
N-Channel Dual JFET (General Purpose); PackageDocument: 1989; Note: Pin 4 is missing and is not drawn; Published: 8-Jun-2000; LatestRevisionDate: 17-Jul-2002; LatestRevisionNote: Re-released for DXP Platform.; DatasheetDocument: 1989; PackageReference: TO-71; Publisher: Altium Limited; ComponentLink1Description: Manufacturer Link; ComponentLink1URL: http://www.national.com/
footprint TO-71 (Can; 7 Leads (1 Absent); Pin Circle Dia. 2.54 mm; Lead Dia. 0.48 mm (max))
simulation model 2N5199 (NJFET)
part A pins: 1 S, 2 D, 3 G
part B pins: 5 S, 6 D, 7 G

## 2N5358
designator Q?
N-Channel JFET (General Purpose Amplifier); PackageDocument: 1989; Note: Pin 4 is connected to case; Published: 8-Jun-2000; LatestRevisionDate: 17-Jul-2002; LatestRevisionNote: Re-released for DXP Platform.; DatasheetDocument: 1989; PackageReference: TO-72; Publisher: Altium Limited; ComponentLink1Description: Manufacturer Link; ComponentLink1URL: http://www.national.com/
footprint TO-72 (Can; 4 Leads; Pin Circle Dia. 2.54 mm; Lead Dia. 0.48 mm (max))
simulation model 2N5358 (NJFET)
pins: 1 S, 2 D, 3 G, 4 C

## 2N5397
designator Q?
N-Channel JFET (RF, VHF, UHF, Amplifier); PackageDocument: 1989; Note: Pin 4 is connected to case; Published: 8-Jun-2000; LatestRevisionDate: 17-Jul-2002; LatestRevisionNote: Re-released for DXP Platform.; DatasheetDocument: 1989; PackageReference: TO-72; Publisher: Altium Limited; ComponentLink1Description: Manufacturer Link; ComponentLink1URL: http://www.national.com/
footprint TO-72 (Can; 4 Leads; Pin Circle Dia. 2.54 mm; Lead Dia. 0.48 mm (max))
simulation model 2N5397 (NJFET)
pins: 1 S, 2 D, 3 G, 4 C

## 2N5398
designator Q?
N-Channel JFET (RF, VHF, UHF, Amplifier); PackageDocument: 1989; Note: Pin 4 is connected to case; Published: 8-Jun-2000; LatestRevisionDate: 17-Jul-2002; LatestRevisionNote: Re-released for DXP Platform.; DatasheetDocument: 1989; PackageReference: TO-72; Publisher: Altium Limited; ComponentLink1Description: Manufacturer Link; ComponentLink1URL: http://www.national.com/
footprint TO-72 (Can; 4 Leads; Pin Circle Dia. 2.54 mm; Lead Dia. 0.48 mm (max))
simulation model 2N5398 (NJFET)
pins: 1 S, 2 D, 3 G, 4 C

## 2N5432
designator Q?
N-Channel JFET (Switch/Chopper); PackageDocument: 1989; Published: 8-Jun-2000; LatestRevisionDate: 17-Jul-2002; LatestRevisionNote: Re-released for DXP Platform.; DatasheetDocument: 1989; PackageReference: TO-52; Publisher: Altium Limited; ComponentLink1Description: Manufacturer Link; ComponentLink1URL: http://www.national.com/
footprint TO-52 (Can; 3 Leads; Pin Circle Dia. 2.54 mm; Lead Dia. 0.48 mm (max))
simulation model 2N5432 (NJFET)
pins: 1 S, 2 D, 3 G

## 2N5433
designator Q?
N-Channel JFET (Switch/Chopper); PackageDocument: 1989; Published: 8-Jun-2000; LatestRevisionDate: 17-Jul-2002; LatestRevisionNote: Re-released for DXP Platform.; DatasheetDocument: 1989; PackageReference: TO-52; Publisher: Altium Limited; ComponentLink1Description: Manufacturer Link; ComponentLink1URL: http://www.national.com/
footprint TO-52 (Can; 3 Leads; Pin Circle Dia. 2.54 mm; Lead Dia. 0.48 mm (max))
simulation model 2N5433 (NJFET)
pins: 1 S, 2 D, 3 G

## 2N5434
designator Q?
N-Channel JFET (Switch/Chopper); PackageDocument: 1989; Published: 8-Jun-2000; LatestRevisionDate: 17-Jul-2002; LatestRevisionNote: Re-released for DXP Platform.; DatasheetDocument: 1989; PackageReference: TO-52; Publisher: Altium Limited; ComponentLink1Description: Manufacturer Link; ComponentLink1URL: http://www.national.com/
footprint TO-52 (Can; 3 Leads; Pin Circle Dia. 2.54 mm; Lead Dia. 0.48 mm (max))
simulation model 2N5434 (NJFET)
pins: 1 S, 2 D, 3 G

## 2N5452
designator Q?
N-Channel Dual JFET (General Purpose); PackageDocument: 1989; Note: Pin 4 is missing and is not drawn; Published: 8-Jun-2000; LatestRevisionDate: 17-Jul-2002; LatestRevisionNote: Re-released for DXP Platform.; DatasheetDocument: 1989; PackageReference: TO-71; Publisher: Altium Limited; ComponentLink1Description: Manufacturer Link; ComponentLink1URL: http://www.national.com/
footprint TO-71 (Can; 7 Leads (1 Absent); Pin Circle Dia. 2.54 mm; Lead Dia. 0.48 mm (max))
simulation model 2N5452 (NJFET)
part A pins: 1 S, 2 D, 3 G
part B pins: 5 S, 6 D, 7 G

## 2N5454
designator Q?
N-Channel Dual JFET (General Purpose); PackageDocument: 1989; Note: Pin 4 is missing and is not drawn; Published: 8-Jun-2000; LatestRevisionDate: 17-Jul-2002; LatestRevisionNote: Re-released for DXP Platform.; DatasheetDocument: 1989; PackageReference: TO-71; Publisher: Altium Limited; ComponentLink1Description: Manufacturer Link; ComponentLink1URL: http://www.national.com/
footprint TO-71 (Can; 7 Leads (1 Absent); Pin Circle Dia. 2.54 mm; Lead Dia. 0.48 mm (max))
simulation model 2N5454 (NJFET)
part A pins: 1 S, 2 D, 3 G
part B pins: 5 S, 6 D, 7 G

## 2N5515
designator Q?
N-Channel Dual JFET (Low Frequency-Low Noise); PackageDocument: 1989; Note: Pin 4 is missing and is not drawn; Published: 8-Jun-2000; LatestRevisionDate: 17-Jul-2002; LatestRevisionNote: Re-released for DXP Platform.; DatasheetDocument: 1989; PackageReference: TO-71; Publisher: Altium Limited; ComponentLink1Description: Manufacturer Link; ComponentLink1URL: http://www.national.com/
footprint TO-71 (Can; 7 Leads (1 Absent); Pin Circle Dia. 2.54 mm; Lead Dia. 0.48 mm (max))
simulation model 2N5515 (NJFET)
part A pins: 1 S, 2 D, 3 G
part B pins: 5 S, 6 D, 7 G

## 2N5516
designator Q?
N-Channel Dual JFET (Low Frequency-Low Noise); PackageDocument: 1989; Note: Pin 4 is missing and is not drawn; Published: 8-Jun-2000; LatestRevisionDate: 17-Jul-2002; LatestRevisionNote: Re-released for DXP Platform.; DatasheetDocument: 1989; PackageReference: TO-71; Publisher: Altium Limited; ComponentLink1Description: Manufacturer Link; ComponentLink1URL: http://www.national.com/
footprint TO-71 (Can; 7 Leads (1 Absent); Pin Circle Dia. 2.54 mm; Lead Dia. 0.48 mm (max))
simulation model 2N5516 (NJFET)
part A pins: 1 S, 2 D, 3 G
part B pins: 5 S, 6 D, 7 G

## 2N5517
designator Q?
N-Channel Dual JFET (Low Frequency-Low Noise); PackageDocument: 1989; Note: Pin 4 is missing and is not drawn; Published: 8-Jun-2000; LatestRevisionDate: 17-Jul-2002; LatestRevisionNote: Re-released for DXP Platform.; DatasheetDocument: 1989; PackageReference: TO-71; Publisher: Altium Limited; ComponentLink1Description: Manufacturer Link; ComponentLink1URL: http://www.national.com/
footprint TO-71 (Can; 7 Leads (1 Absent); Pin Circle Dia. 2.54 mm; Lead Dia. 0.48 mm (max))
simulation model 2N5517 (NJFET)
part A pins: 1 S, 2 D, 3 G
part B pins: 5 S, 6 D, 7 G

## 2N5518
designator Q?
N-Channel Dual JFET (Low Frequency-Low Noise); PackageDocument: 1989; Note: Pin 4 is missing and is not drawn; Published: 8-Jun-2000; LatestRevisionDate: 17-Jul-2002; LatestRevisionNote: Re-released for DXP Platform.; DatasheetDocument: 1989; PackageReference: TO-71; Publisher: Altium Limited; ComponentLink1Description: Manufacturer Link; ComponentLink1URL: http://www.national.com/
footprint TO-71 (Can; 7 Leads (1 Absent); Pin Circle Dia. 2.54 mm; Lead Dia. 0.48 mm (max))
simulation model 2N5518 (NJFET)
part A pins: 1 S, 2 D, 3 G
part B pins: 5 S, 6 D, 7 G

## 2N5519
designator Q?
N-Channel Dual JFET (Low Frequency-Low Noise); PackageDocument: 1989; Note: Pin 4 is missing and is not drawn; Published: 8-Jun-2000; LatestRevisionDate: 17-Jul-2002; LatestRevisionNote: Re-released for DXP Platform.; DatasheetDocument: 1989; PackageReference: TO-71; Publisher: Altium Limited; ComponentLink1Description: Manufacturer Link; ComponentLink1URL: http://www.national.com/
footprint TO-71 (Can; 7 Leads (1 Absent); Pin Circle Dia. 2.54 mm; Lead Dia. 0.48 mm (max))
simulation model 2N5519 (NJFET)
part A pins: 1 S, 2 D, 3 G
part B pins: 5 S, 6 D, 7 G

## 2N5520
designator Q?
N-Channel Dual JFET (Low Frequency-Low Noise); PackageDocument: 1989; Note: Pin 4 is missing and is not drawn; Published: 8-Jun-2000; LatestRevisionDate: 17-Jul-2002; LatestRevisionNote: Re-released for DXP Platform.; DatasheetDocument: 1989; PackageReference: TO-71; Publisher: Altium Limited; ComponentLink1Description: Manufacturer Link; ComponentLink1URL: http://www.national.com/
footprint TO-71 (Can; 7 Leads (1 Absent); Pin Circle Dia. 2.54 mm; Lead Dia. 0.48 mm (max))
simulation model 2N5520 (NJFET)
part A pins: 1 S, 2 D, 3 G
part B pins: 5 S, 6 D, 7 G